# EAGLE library part PINHDR_1X6 (library Dal_V2)
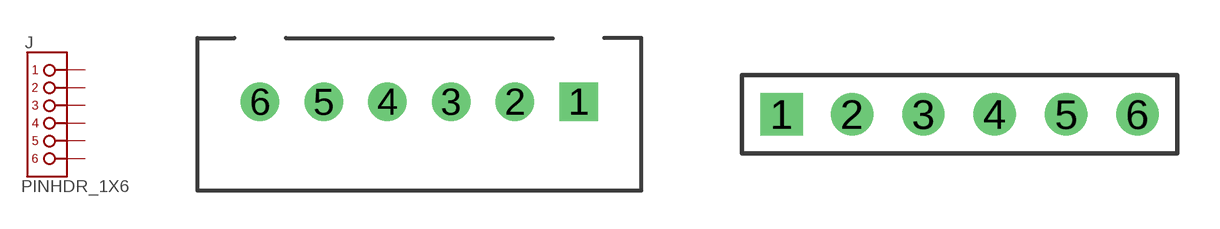
[diagram p5: symbol with the pads of JST-XH_098_VERT_1X6; footprints JST-XH_098_VERT_1X6, PINHDR_TH_100_1X6]

Designator prefix J

## PINHDR_1X6-JST  [JST-XH_098_VERT_1X6]
1  6  pas
2  5  pas
3  4  pas
4  3  pas
5  2  pas
6  1  pas

## PINHDR_1X6-100  [PINHDR_TH_100_1X6]
1  1  pas
2  2  pas
3  3  pas
4  4  pas
5  5  pas
6  6  pas

## PINHDR_1X6-200  [TERMBLOCK_TH_200_1X6]
P$1  1  pas
P$2  2  pas
P$3  3  pas
P$4  4  pas
P$5  5  pas
P$6  6  pas

## PINHDR_1X6-PH2  [PH2_TH_SIDE_200_1X6]
P$1  1  pas
P$2  2  pas
P$3  3  pas
P$4  4  pas
P$5  5  pas
P$6  6  pas
PA$1  1  pas
PA$2  2  pas
PA$3  3  pas
PA$4  4  pas
PA$5  5  pas
PA$6  6  pas

## PINHDR_1X6-PH1  [PHOENIX_TH_SIDE_200_1X6]
Pads as for TERMBLOCK_TH_200_1X6

## Footprint JST-XH_098_VERT_1X6 (pad centres in mm)
JST Connector, XH Series, 0.098 Inch, 1x6
drill 1 square: 1 0,0
drill 1: 2 -2.5,0; 3 -5,0; 4 -7.5,0; 5 -10,0; 6 -12.5,0

## Footprint PINHDR_TH_100_1X6 (pad centres in mm)
drill 1 square: 1 0.02,0
drill 1: 2 2.52,0; 3 5.06,0; 4 7.6,0; 5 10.14,0; 6 12.68,0

## Footprint TERMBLOCK_TH_200_1X6 (pad centres in mm)
drill 1.6: P$1 0,0; P$2 5.08,0; P$3 10.16,0; P$4 15.24,0; P$5 20.32,0; P$6 25.4,0

## Footprint PH2_TH_SIDE_200_1X6 (pad centres in mm)
PHOENIX Header - 2 Pos Mounting can be vertial or horzantial. If Horz version is used then must leave at least .375 for plug. Can be mounted at edge of PCM for either vert or horz version.
drill 1.4: P$1 0,0; P$2 5.08,0; P$3 10.16,0; P$4 15.24,0; P$5 20.32,0; P$6 25.4,0; PA$1 0,5.08; PA$2 5.08,5.08; PA$3 10.16,5.08; PA$4 15.24,5.08; PA$5 20.32,5.08; PA$6 25.4,5.08

## Footprint PHOENIX_TH_SIDE_200_1X6 (pad centres in mm)
PHOENIX Header - 2 Pos Mounting can be vertial or horzantial. If Horz version is used then must leave at least .375 for plug. Can be mounted at edge of PCM for either vert or horz version.
drill 1.5: P$1 0,0; P$2 5.08,0; P$3 10.16,0; P$4 15.24,0; P$5 20.32,0; P$6 25.4,0